# EAGLE library part RELAY_HUI_KE_HK_19F-DC_5V-SHG (library captain-slow)
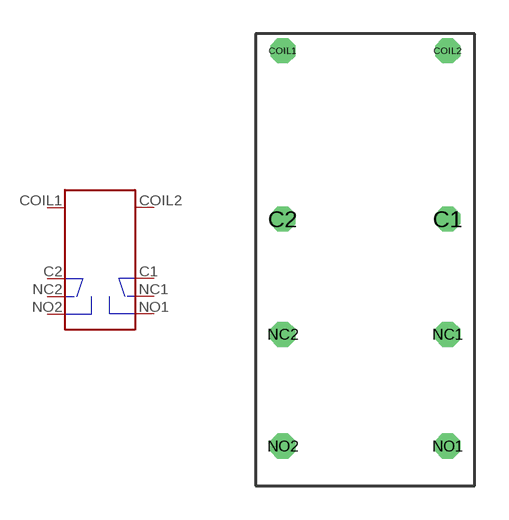
[diagram p2: symbol with the pads of RELAY_HUI_KE_HK_19F-DC_5V-SHG; footprint RELAY_HUI_KE_HK_19F-DC_5V-SHG]

Designator prefix -

## RELAY_HUI_KE_HK_19F-DC_5V-SHG  [RELAY_HUI_KE_HK_19F-DC_5V-SHG]
C1  COMMON1
C2  COMMON2
COIL1  COIL1  in
COIL2  COIL2  in
NC1  NC1
NC2  NC2
NO1  NO1
NO2  NO2

## Footprint RELAY_HUI_KE_HK_19F-DC_5V-SHG (pad centres in mm)
drill 0.6 octagon: C1 3.65,1.8; C2 -3.65,1.8; COIL1 -3.65,9.25; COIL2 3.65,9.25; NC1 3.65,-3.3; NC2 -3.65,-3.3; NO1 3.65,-8.25; NO2 -3.65,-8.25